# EAGLE library part A24001-020 (library con-omnetics)
CONNECTOR wire to board 1.27 mm (0.05") pitch header
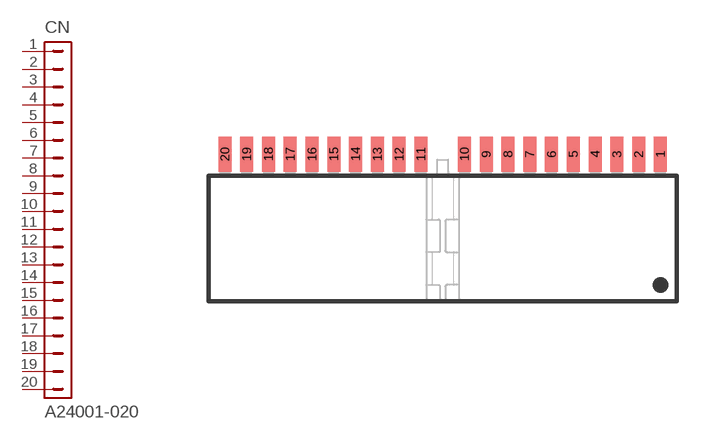
[diagram p3: symbol with the pads of A24001-020; footprint A24001-020]

Designator prefix CN

## A24001-020  [A24001-020]
1  1  pas
2  2  pas
3  3  pas
4  4  pas
5  5  pas
6  6  pas
7  7  pas
8  8  pas
9  9  pas
10  10  pas
11  11  pas
12  12  pas
13  13  pas
14  14  pas
15  15  pas
16  16  pas
17  17  pas
18  18  pas
19  19  pas
20  20  pas

## Footprint A24001-020 (pad centres in mm)
Connector SMD right angle, 20 pin
smd 0.762 x 2.032: 1 12.7,5.08; 2 11.43,5.08; 3 10.16,5.08; 4 8.89,5.08; 5 7.62,5.08; 6 6.35,5.08; 7 5.08,5.08; 8 3.81,5.08; 9 2.54,5.08; 10 1.27,5.08; 11 -1.27,5.08; 12 -2.54,5.08; 13 -3.81,5.08; 14 -5.08,5.08; 15 -6.35,5.08; 16 -7.62,5.08; 17 -8.89,5.08; 18 -10.16,5.08; 19 -11.43,5.08; 20 -12.7,5.08